# EAGLE library part 555 (library FSAE Electric (Alexander Ray's conflicted copy 2016-04-02))
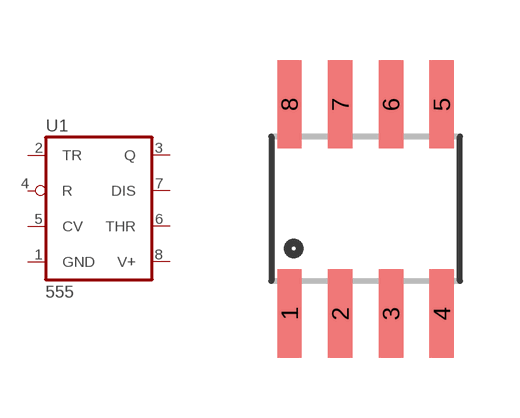
[diagram p92: symbol with the pads of SO-8; footprint SO-8]

Designator prefix U1

## 555 (PARTNO: NE555PSR)  [SO-8]
1  GND  pwr
2  TR  in
3  Q  out
4  R  in
5  CV  in
6  THR  in
7  DIS  in
8  V+  pwr

## Footprint SO-8 (pad centres in mm)
smd 0.61 x 2.21: 1 -1.905,-2.616; 2 -0.635,-2.616; 3 0.635,-2.616; 4 1.905,-2.616; 5 1.905,2.616; 6 0.635,2.616; 7 -0.635,2.616; 8 -1.905,2.616